# Altium schematic symbol library SCH - RF - CONNECTOR - RF CONNECTOR - SMA.SCHLIB: 1 symbol
Pins are listed as number, name and electrical type; pins without a type are passive.

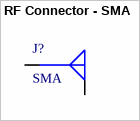
[diagram p0: symbol RF Connector - SMA]

## RF Connector - SMA
designator J?, comment SMA
pins: G, S